# EAGLE library part N25Q256A (library MyLibrary)
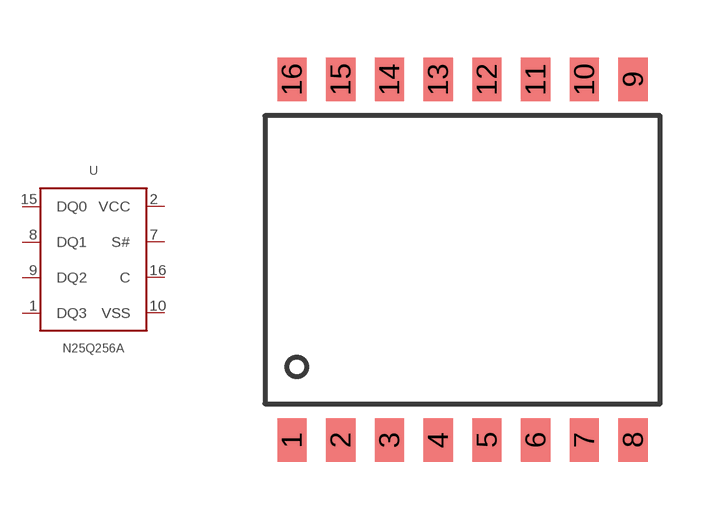
[diagram p6: symbol with the pads of SO16; footprint SO16]

Designator prefix -

## N25Q256A  [SO16]
1  DQ3
2  VCC
7  S#
8  DQ1
9  DQ2
10  VSS
15  DQ0
16  C

## Footprint SO16 (pad centres in mm)
smd 0.762 x 1.143: 1 -4.445,-4.699; 2 -3.175,-4.699; 3 -1.905,-4.699; 4 -0.635,-4.699; 5 0.635,-4.699; 6 1.905,-4.699; 7 3.175,-4.699; 8 4.445,-4.699; 9 4.445,4.699; 10 3.175,4.699; 11 1.905,4.699; 12 0.635,4.699; 13 -0.635,4.699; 14 -1.905,4.699; 15 -3.175,4.699; 16 -4.445,4.699